# EAGLE library part 734-509 (library con-wago_3.81mm)
Serie 734, Federleiste mit geraden Einlötstiften / Series 734, Female connector with straight solder pins Polzahl / Pole No.: 9 Bemessungsspannung / Rated Voltage: 160 V Nennstrom / Nominal Current: 10 A Lötstiftlänge: / Solder Pin Length: 3.8 mm Farbe / Color: orange / orange Stand: 01.01.2012. Die jeweils aktuellen Daten zu diesem Artikel finden Sie in unserem Produktkatalog, den Sie unter www.wago.com einsehen können. As of: 01/01/2012. Please find the newest data for this article in our product catalogue, which can be viewed under www.wago.com.
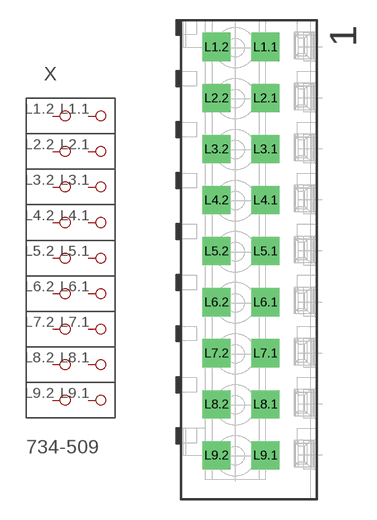
[diagram p42: symbol with the pads of P-734-509; footprint P-734-509]

Designator prefix X

## 734-509  [P-734-509]
L1.1  P1.1
L1.2  P1.2
L2.1  P2.1
L2.2  P2.2
L3.1  P3.1
L3.2  P3.2
L4.1  P4.1
L4.2  P4.2
L5.1  P5.1
L5.2  P5.2
L6.1  P6.1
L6.2  P6.2
L7.1  P7.1
L7.2  P7.2
L8.1  P8.1
L8.2  P8.2
L9.1  P9.1
L9.2  P9.2

## Footprint P-734-509 (pad centres in mm)
drill 1.4 square: L1.1 1.207,15.885; L1.2 -2.443,15.885; L2.1 1.207,12.075; L2.2 -2.443,12.075; L3.1 1.207,8.265; L3.2 -2.443,8.265; L4.1 1.207,4.455; L4.2 -2.443,4.455; L5.1 1.207,0.645; L5.2 -2.443,0.645; L6.1 1.207,-3.165; L6.2 -2.443,-3.165; L7.1 1.207,-6.975; L7.2 -2.443,-6.975; L8.1 1.207,-10.785; L8.2 -2.443,-10.785; L9.1 1.207,-14.595; L9.2 -2.443,-14.595